# Altium schematic symbol library MAX14930DASE+.SchLib: 1 symbol
Pins are listed as number, name and electrical type; pins without a type are passive.

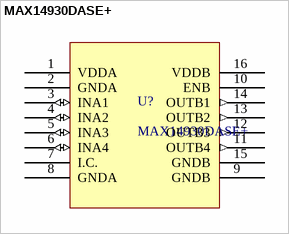
[diagram p0: symbol MAX14930DASE+]

## MAX14930DASE+
designator U?
footprint MAX14930DASE+
pins: 1 VDDA, 2 GNDA, 3 INA1 (io), 4 INA2 (io), 5 INA3 (io), 6 INA4 (io), 7 I.C., 8 GNDA, 9 GNDB, 10 ENB, 11 OUTB4 (out), 12 OUTB3 (out), 13 OUTB2 (out), 14 OUTB1 (out), 15 GNDB, 16 VDDB